# Altium schematic symbol library Miscellaneous Devices.SchLib: 236 symbols (part 2 of 2)
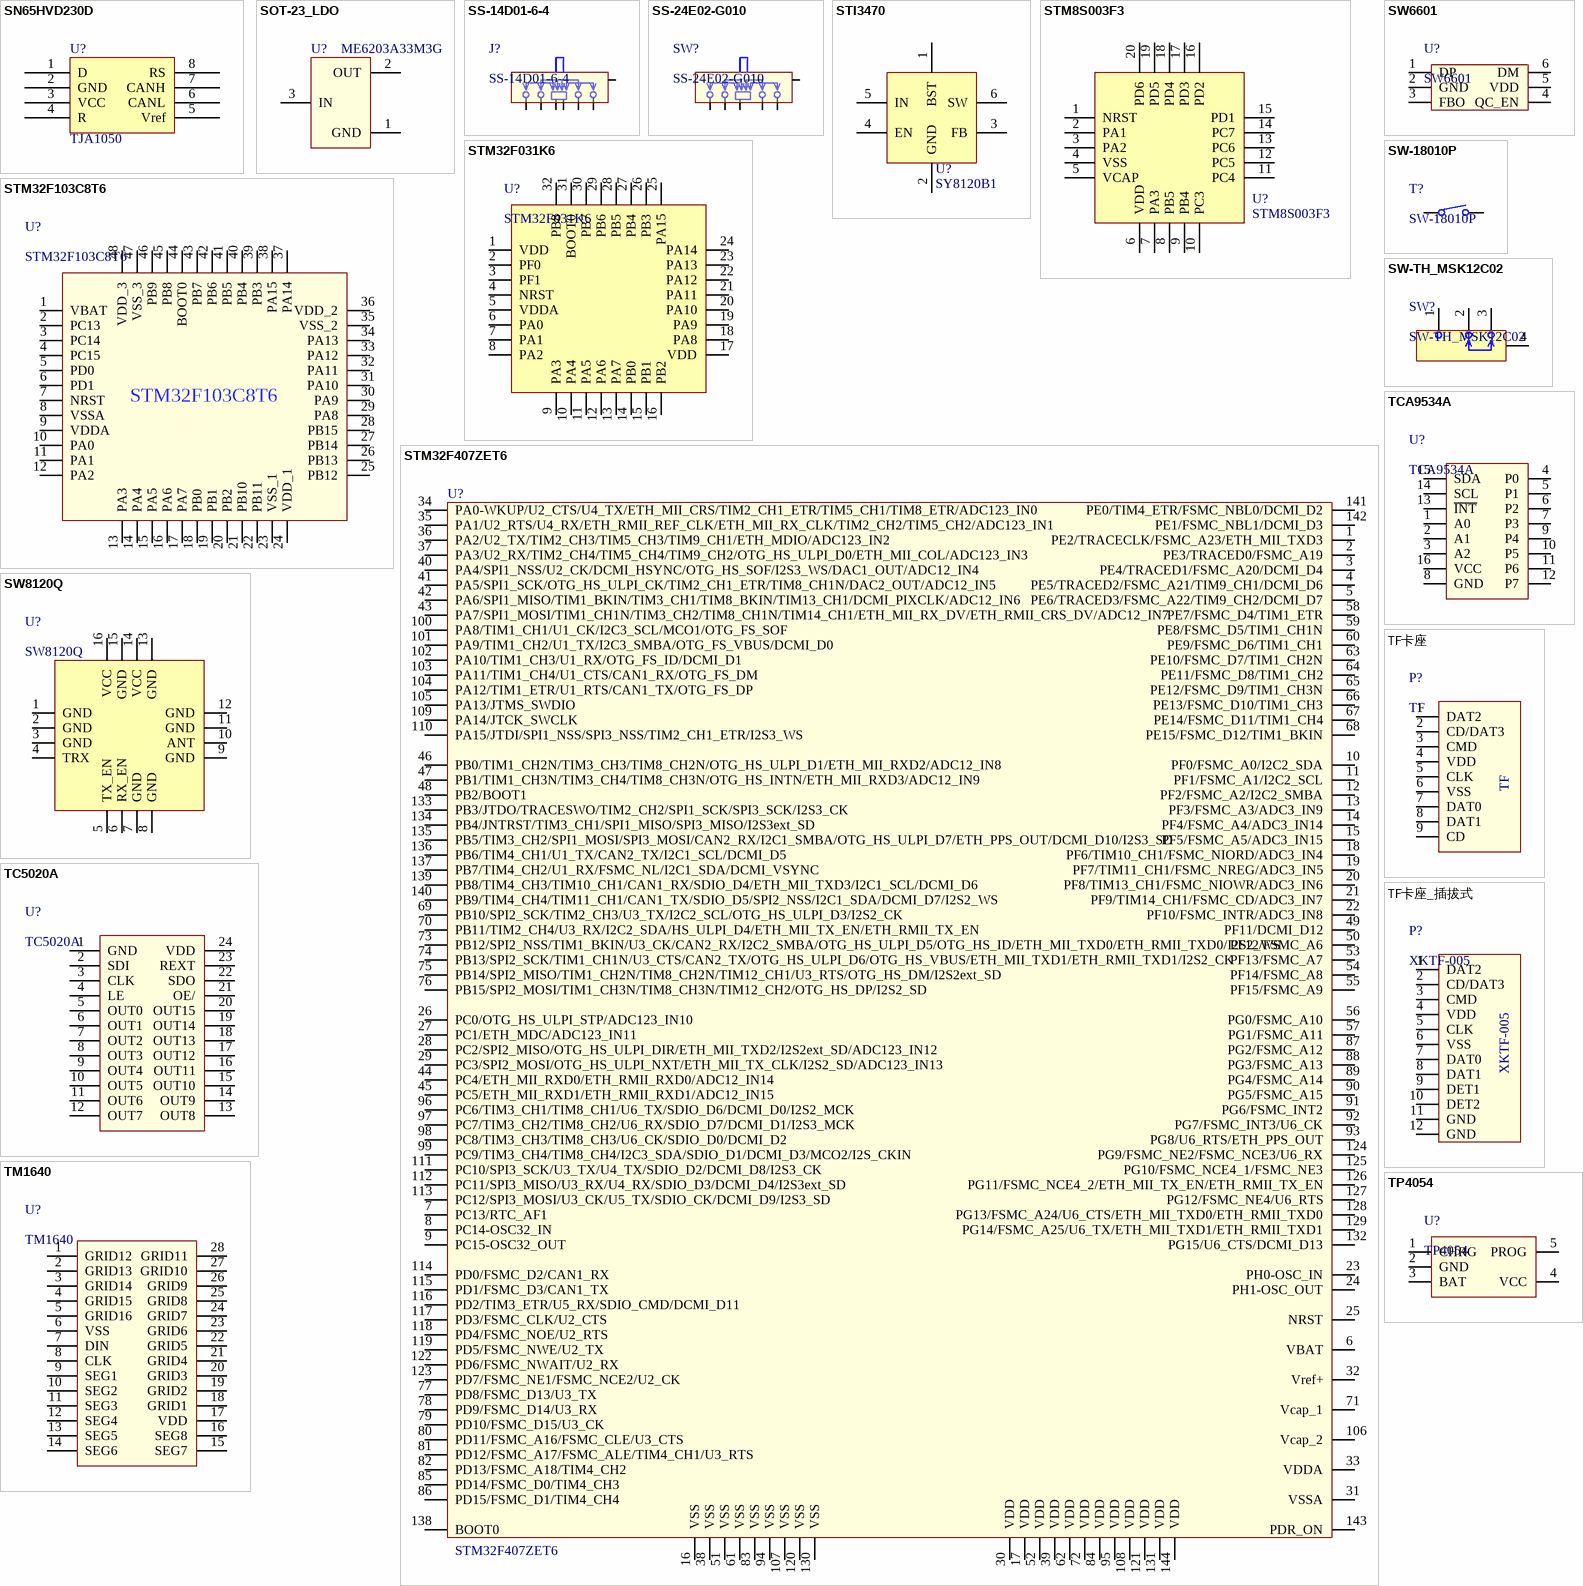
[diagram p9: symbols SN65HVD230D to TP4054]

## TM1640
designator U?
footprint SOP127P1020X270-28N (SOP, 28-Leads, Body 17.93x7.52mm, Pitch 1.27mm, IPC Medium Density)
pins: 1 GRID12, 2 GRID13, 3 GRID14, 4 GRID15, 5 GRID16, 6 VSS, 7 DIN, 8 CLK, 9 SEG1, 10 SEG2, 11 SEG3, 12 SEG4, 13 SEG5, 14 SEG6, 15 SEG7, 16 SEG8, 17 VDD, 18 GRID1, 19 GRID2, 20 GRID3, 21 GRID4, 22 GRID5, 23 GRID6, 24 GRID7, 25 GRID8, 26 GRID9, 27 GRID10, 28 GRID11

## TP4054
designator U?
footprint SOT-23-5
pins: 1 CHRG, 2 GND, 3 BAT, 4 VCC, 5 PROG

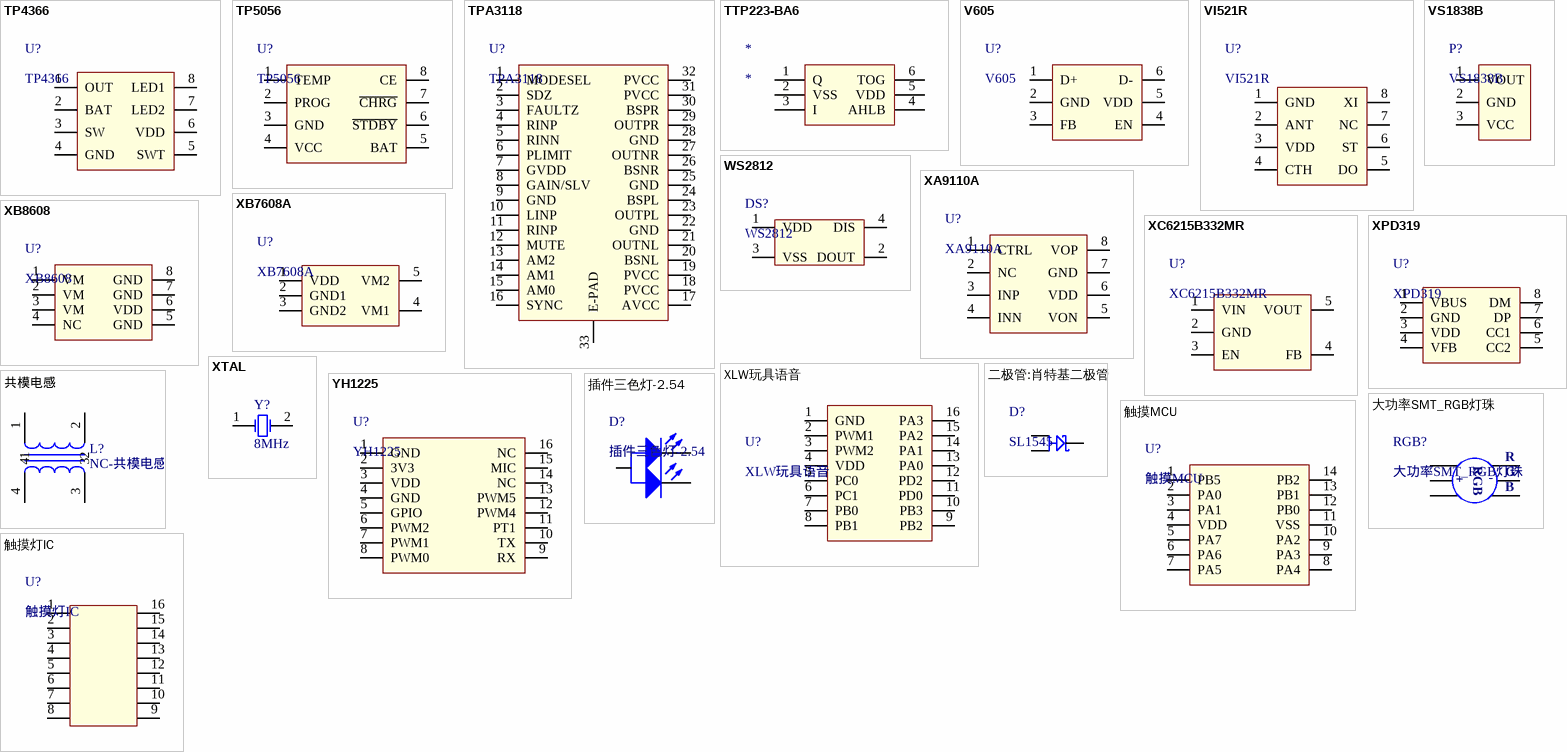
[diagram p8: symbols TP4366 to 触摸灯IC]

## TP4366
designator U?
footprint ESOP8L
pins: 1 OUT, 2 BAT, 3 SW, 4 GND, 5 SWT, 6 VDD, 7 LED2, 8 LED1

## TP5056
designator U?
footprint ESOP8L
pins: 1 TEMP, 2 PROG, 3 GND, 4 VCC, 5 BAT, 6 ~{STDBY}, 7 ~{CHRG}, 8 CE

## TPA3118
designator U?
footprint HTSSOP-32_L11.0-W6.1-P0.65-LS8.1-BL-EP
pins: 1 MODESEL, 2 SDZ, 3 FAULTZ, 4 RINP, 5 RINN, 6 PLIMIT, 7 GVDD, 8 GAIN/SLV, 9 GND, 10 LINP, 11 RINP, 12 MUTE, 13 AM2, 14 AM1, 15 AM0, 16 SYNC, 17 AVCC, 18 PVCC, 19 PVCC, 20 BSNL, 21 OUTNL, 22 GND, 23 OUTPL, 24 BSPL, 25 GND, 26 BSNR, 27 OUTNR, 28 GND, 29 OUTPR, 30 BSPR, 31 PVCC, 32 PVCC, 33 E-PAD

## TTP223-BA6
designator *
footprint SOT23L-6P
pins: 1 Q, 2 VSS, 3 I, 4 AHLB, 5 VDD, 6 TOG

## V605
designator U?
footprint SOT23L-6P
pins: 1 D+, 2 GND, 3 FB, 4 EN, 5 VDD, 6 D-

## VI521R
designator U?
footprint SOP-8_150MIL
pins: 1 GND, 2 ANT, 3 VDD, 4 CTH, 5 DO, 6 ST, 7 NC, 8 XI

## VS1838B
designator P?
footprint DY-IRM-WA01-B
pins: 1 VOUT, 2 GND, 3 VCC

## WS2812
designator DS?
footprint SMD-5*5-WS2812
footprint LED-SMD_4P-L2.0-W1.8_CY-0807
pins: 1 VDD, 2 DOUT, 3 VSS, 4 DIS

## XA9110A
designator U?
footprint ESOP8L
pins: 1 CTRL, 2 NC, 3 INP, 4 INN, 5 VON, 6 VDD, 7 GND, 8 VOP

## XB7608A
designator U?
footprint SOT-23-5
pins: 1 VDD, 2 GND1, 3 GND2, 4 VM1, 5 VM2

## XB8608
designator U?
footprint SOP-8_150MIL
pins: 1 VM, 2 VM, 3 VM, 4 NC, 5 GND, 6 VDD, 7 GND, 8 GND

## XC6215B332MR
designator U?
footprint SOT-23-5
pins: 1 VIN, 2 GND, 3 EN, 4 FB, 5 VOUT

## XLW玩具语音
designator U?
footprint SOP127P600X175-16N (SOP, 16-Leads, Body 9.90x3.90mm, Pitch 1.27mm, IPC Medium Density)
pins: 1 GND, 2 PWM1, 3 PWM2, 4 VDD, 5 PC0, 6 PC1, 7 PB0, 8 PB1, 9 PB2, 10 PB3, 11 PD0, 12 PD2, 13 PA0, 14 PA1, 15 PA2, 16 PA3

## XPD319
designator U?
footprint SOP-8_150MIL
pins: 1 VBUS, 2 GND, 3 VDD, 4 VFB, 5 CC2, 6 CC1, 7 DP, 8 DM

## XTAL
designator Y?, comment 8MHz
Crystal Oscillator; Published: 8-Jun-2000; LatestRevisionDate: 17-Jul-2002; LatestRevisionNote: Re-released for DXP Platform.; Publisher: Altium Limited
footprint AT26
footprint XTAL-49-SMD
footprint SMD_L7.0-W3.2-LS7.5_HUAXIN_DP2
pins: 1 OSC1, 2 OSC2

## YH1225
designator U?
footprint SOP16M
pins: 1 GND, 2 3V3, 3 VDD, 4 GND, 5 GPIO, 6 PWM2, 7 PWM1, 8 PWM0, 9 RX, 10 TX, 11 PT1, 12 PWM4, 13 PWM5, 14 NC, 15 MIC, 16 NC

## 二极管:肖特基二极管
designator D?, comment SL1545
footprint TO-277_3P-L5.4-W4.0-LS6.5-BR
pins: 1, 2, 3

## 共模电感
designator L?, comment NC-共模电感
footprint 贴片共模电感
footprint ACM7060
pins: 1, 2, 3, 4

## 大功率SMT_RGB灯珠
designator RGB?
footprint 大功率SMT_RGB灯珠
pins: 1, 2, 3, 4, 5, 6
text: RGB; R; G; +; -; B

## 插件三色灯-2.54
designator D?
footprint LED-TH_3P-BD3.9-P2.54-BI
pins: 1, 2, 3

## 触摸MCU
designator U?
footprint SOP-14
pins: 1 PB5, 2 PA0, 3 PA1, 4 VDD, 5 PA7, 6 PA6, 7 PA5, 8 PA4, 9 PA3, 10 PA2, 11 VSS, 12 PB0, 13 PB1, 14 PB2

## 触摸灯IC
designator U?
footprint SOP16M
pins: 1 0, 2 1, 3 2, 4 3, 5 4, 6 5, 7 6, 8 7, 9 8, 10 9, 11 10, 12 11, 13 12, 14 13, 15 14, 16 15